# EAGLE library part TXB0108 (library texas-instruments)
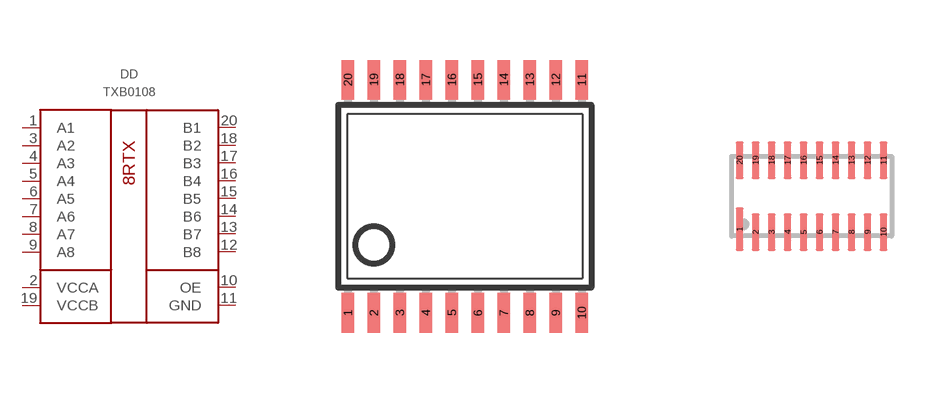
[diagram p25: symbol with the pads of TSSOP20; footprints TSSOP20, USON20]

Designator prefix DD

## TXB0108PWR  [TSSOP20]
1  A1
2  VCCA  pwr
3  A2
4  A3
5  A4
6  A5
7  A6
8  A7
9  A8
10  OE  in
11  GND  pwr
12  B8
13  B7
14  B6
15  B5
16  B4
17  B3
18  B2
19  VCCB  pwr
20  B1

## TXB0108DQSR  [USON20]
1  A1
2  A2
3  A3
4  A4
5  VCCA  pwr
6  OE  in
7  A5
8  A6
9  A7
10  A8
11  B8
12  B7
13  B6
14  B5
15  GND  pwr
16  VCCB  pwr
17  B4
18  B3
19  B2
20  B1

## TXB0108RGYR  [VQFN20]
Pads as for TSSOP20

## TXB0108ZXYR  [XBGA20]
A1  B2
A2  B1
A3  A1
A4  A2
B1  B4
B2  B3
B3  A3
B4  A4
C1  VCCB  pwr
C2  B5
C3  A5
C4  VCCA  pwr
D1  GND  pwr
D2  B7
D3  A7
D4  OE  in
E1  B6
E2  B8
E3  A8
E4  A6

## Footprint TSSOP20 (pad centres in mm)
Thin Shrink Small Outline Plastic 20 MAX3223-MAX3243.pdf
smd 0.305 x 0.991: 1 -2.925,-2.918; 2 -2.275,-2.918; 3 -1.625,-2.918; 4 -0.975,-2.918; 5 -0.325,-2.918; 6 0.325,-2.918; 7 0.975,-2.918; 8 1.625,-2.918; 9 2.275,-2.918; 10 2.925,-2.918; 11 2.925,2.918; 12 2.275,2.918; 13 1.625,2.918; 14 0.975,2.918; 15 0.325,2.918; 16 -0.325,2.918; 17 -0.975,2.918; 18 -1.625,2.918; 19 -2.275,2.918; 20 -2.925,2.918

## Footprint USON20 (pad centres in mm)
smd 0.2 x 1.1: 1 -1.8,-0.825
smd 0.2 x 0.95: 2 -1.4,-0.9; 3 -1,-0.9; 4 -0.6,-0.9; 5 -0.2,-0.9; 6 0.2,-0.9; 7 0.6,-0.9; 8 1,-0.9; 9 1.4,-0.9; 10 1.8,-0.9; 11 1.8,0.9; 12 1.4,0.9; 13 1,0.9; 14 0.6,0.9; 15 0.2,0.9; 16 -0.2,0.9; 17 -0.6,0.9; 18 -1,0.9; 19 -1.4,0.9; 20 -1.8,0.9

## Footprint VQFN20 (pad centres in mm)
smd 0.8 x 0.25: 1 -2.25,-0.75; 10 2.25,-0.75; 11 2.25,0.75; 20 -2.25,0.75
smd 0.25 x 0.8: 2 -1.75,-1.625; 3 -1.25,-1.625; 4 -0.75,-1.625; 5 -0.25,-1.625; 6 0.25,-1.625; 7 0.75,-1.625; 8 1.25,-1.625; 9 1.75,-1.625; 12 1.75,1.625; 13 1.25,1.625; 14 0.75,1.625; 15 0.25,1.625; 16 -0.25,1.625; 17 -0.75,1.625; 18 -1.25,1.625; 19 -1.75,1.625
smd 3.025 x 2.025: EP 0,0

## Footprint XBGA20 (pad centres in mm)
smd 0.25 x 0.25: A1 -1,0.75; A2 -1,0.25; A3 -1,-0.25; A4 -1,-0.75; B1 -0.5,0.75; B2 -0.5,0.25; B3 -0.5,-0.25; B4 -0.5,-0.75; C1 0,0.75; C2 0,0.25; C3 0,-0.25; C4 0,-0.75; D1 0.5,0.75; D2 0.5,0.25; D3 0.5,-0.25; D4 0.5,-0.75; E1 1,0.75; E2 1,0.25; E3 1,-0.25; E4 1,-0.75